# Altium footprint library ds1069_5mrw6xa.PcbLib: 1 footprints
Each footprint in its own frame and in the unit in brackets; x right, y up, seen from the top. Pads: shape width x height; smd on the part's side, far side on the other; paste and mask are expansions set on the pad; w line width, h text height; cw(c..) or ccw(c..) is an arc to the next point about the centre after c.
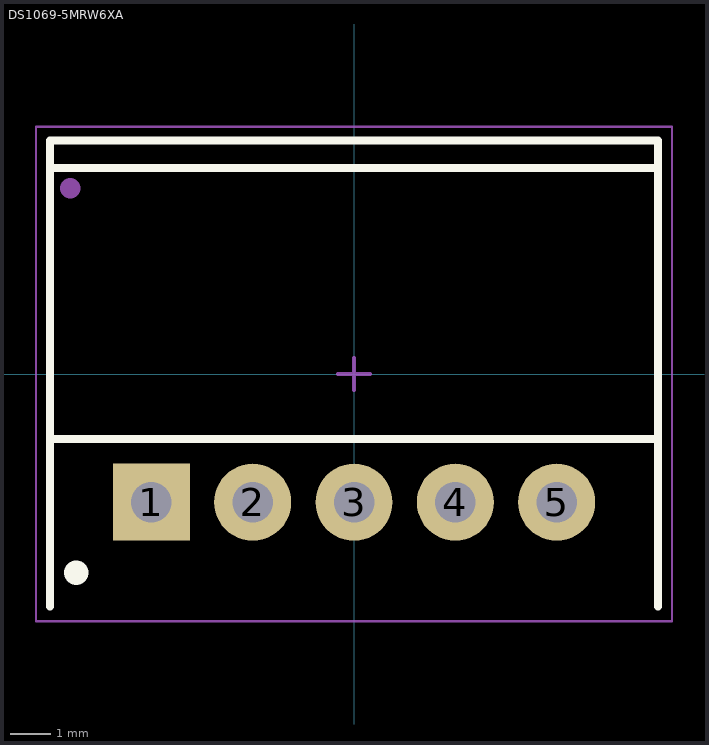
[diagram p0: the footprint, top view; thin cyan lines are the x and y axes]

## DS1069-5MRW6XA [mm]
height 7
pads (5):
  rect 1.9x1.9 hole 1: 1(-5,-3.164)
  round 1.9 hole 1: 2(-2.5,-3.164) 3(0,-3.164) 4(2.5,-3.164) 5(5,-3.164)
Top Overlay:
  circle w0.6: c-6.85,-4.9 r0.001
  lines w0.2: -7.5,-5.737 -7.5,5.763 7.5,5.763 7.5,-5.737 ; -7.5,-1.6 7.5,-1.6 ; -7.5,5.08 7.5,5.08
Top Comment:
  text ".Comment" at 0.5,6.5 h1.2
Top Designator:
  text ".Designator" at -1.3,6.5 h1.2
Top Component Outline:
  lines w0.1: -7.5,5.08 7.5,5.08 ; -7.5,-1.6 -7.5,5.763 7.5,5.763 7.5,-1.6 -7.5,-1.6
  lines w0.5: -7,4.58 -6.995,4.585
Top Courtyard (Mech15):
  lines w0.05: -7.85,-6.1 7.85,-6.1 7.85,6.1 -7.85,6.1 -7.85,-6.1
  lines w0.1: -0.4,0 0.4,0 ; 0,-0.4 0,0.4
3D body "DS1069-5R (CWF-5R).step": height 5.85, standoff -3.4, extent -7.5,-5.737 7.5,5.763